# Altium schematic symbol library Other_Mechanical.SchLib: 9 symbols
Pins are listed as number, name and electrical type; pins without a type are passive.

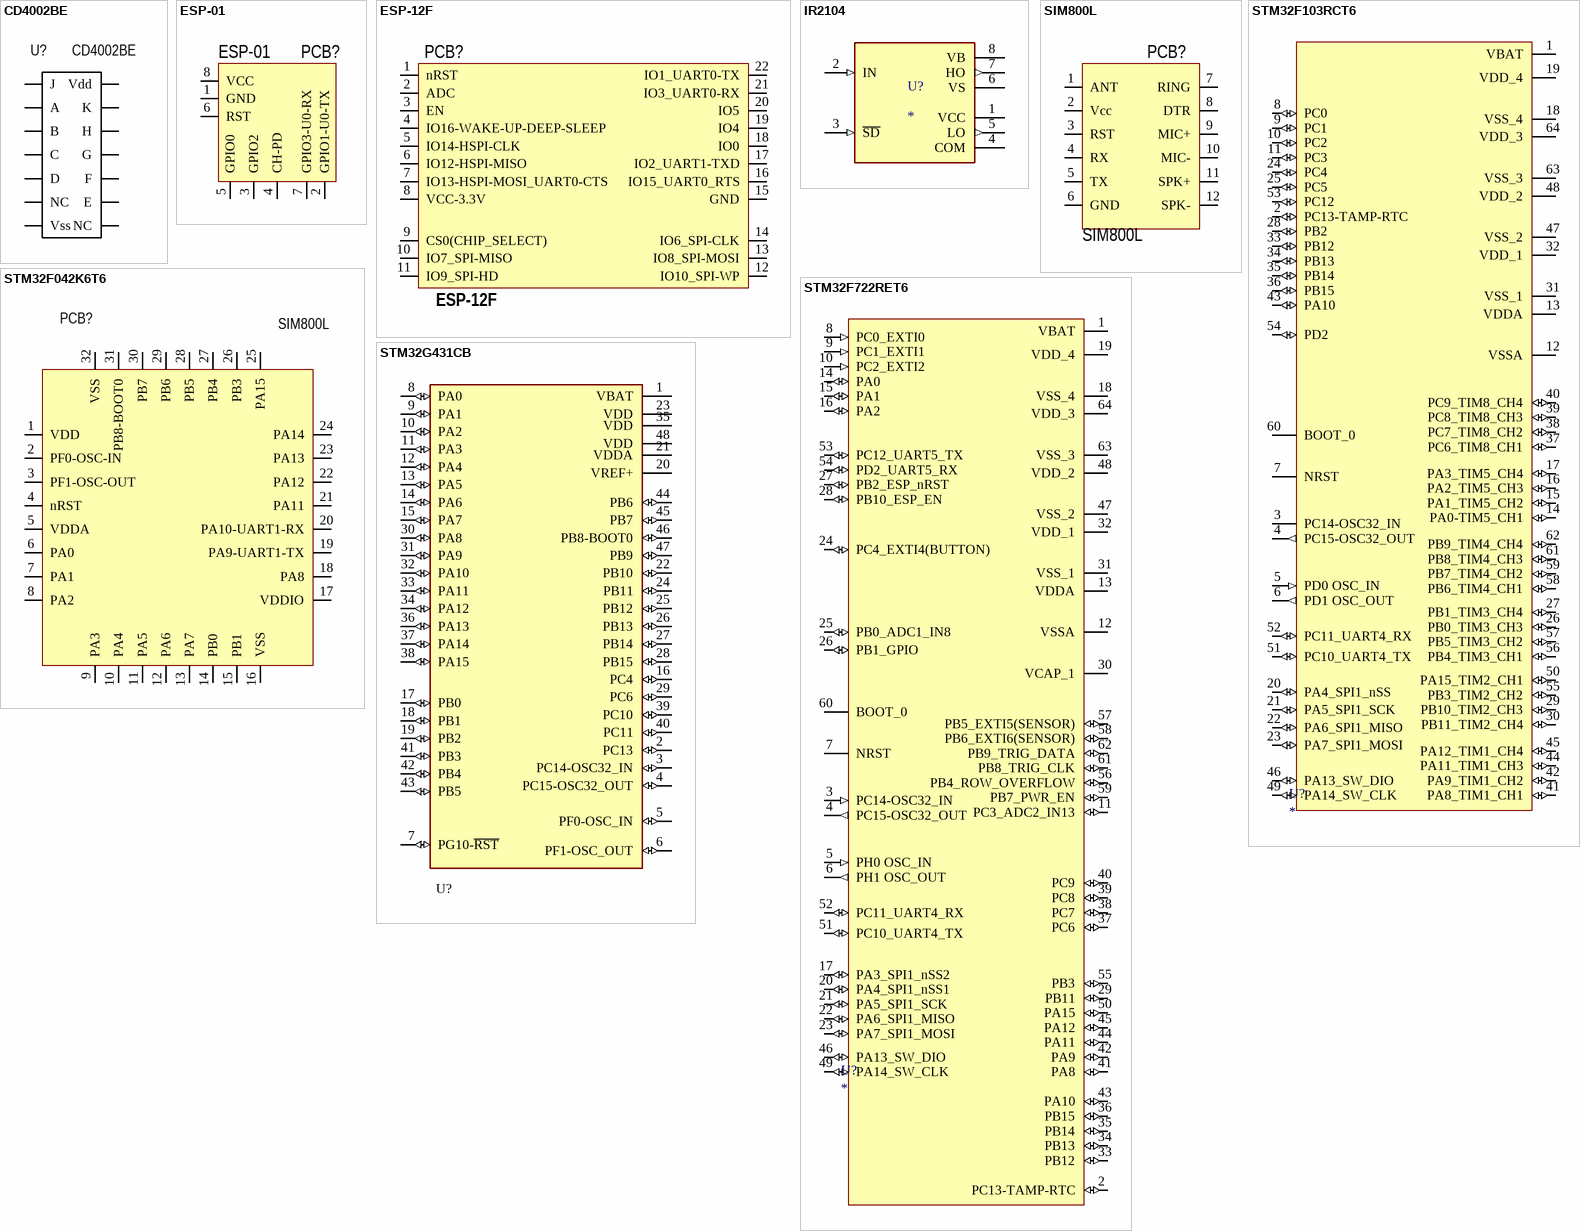
[diagram p0: symbols CD4002BE to STM32G431CB]

## CD4002BE
designator U?
Two 4-input dual CMOS NOR
footprint DIP-14
footprint DIP-14-bottom-only
pins: 1 J "J=not(A+B+C+D)", 2 A, 3 B, 4 C, 5 D, 6 NC (hiz), 7 Vss, 8 NC (hiz), 9 E, 10 F, 11 G, 12 H, 13 K "K=not(E+F+G+H)", 14 Vdd

## ESP-01
designator PCB?
footprint ESP-01
pins: 1 GND, 2 GPIO1-U0-TX, 3 GPIO2, 4 CH-PD, 5 GPIO0, 6 RST, 7 GPIO3-U0-RX, 8 VCC

## ESP-12F
designator PCB?
footprint ESP-12F
pins: 1 nRST, 2 ADC, 3 EN, 4 IO16-WAKE-UP-DEEP-SLEEP, 5 IO14-HSPI-CLK, 6 IO12-HSPI-MISO, 7 IO13-HSPI-MOSI_UART0-CTS, 8 VCC-3.3V, 9 CS0(CHIP_SELECT), 10 IO7_SPI-MISO, 11 IO9_SPI-HD, 12 IO10_SPI-WP, 13 IO8_SPI-MOSI, 14 IO6_SPI-CLK, 15 GND, 16 IO15_UART0_RTS, 17 IO2_UART1-TXD, 18 IO0, 19 IO4, 20 IO5, 21 IO3_UART0-RX, 22 IO1_UART0-TX

## IR2104
designator U?
Half-Bridge Gate Driver IC Non-Inverting 8-PDIP; MF: Infineon Technologies; MP: IR2104; SnapEDA_Link: https://www.snapeda.com/parts/IR2104/Infineon/view-part/?ref=snap; Package: DIP-8 Infineon; Value: *; Check_prices: https://www.snapeda.com/parts/IR2104/Infineon/view-part/?ref=eda
footprint DIP762W45P254L988H533Q8
pins: 1 VCC (power), 2 IN (in), 3 ~{SD} (in), 4 COM (power), 5 LO (out), 6 VS (power), 7 HO (out), 8 VB (power)

## SIM800L
designator PCB?
footprint SIM800L
pins: 1 ANT, 2 Vcc, 3 RST, 4 RX, 5 TX, 6 GND, 7 RING, 8 DTR, 9 MIC+, 10 MIC-, 11 SPK+, 12 SPK-

## STM32F042K6T6
designator PCB?, comment SIM800L
footprint LQFP32
pins: 1 VDD, 2 PF0-OSC-IN, 3 PF1-OSC-OUT, 4 nRST, 5 VDDA, 6 PA0, 7 PA1, 8 PA2, 9 PA3, 10 PA4, 11 PA5, 12 PA6, 13 PA7, 14 PB0, 15 PB1, 16 VSS, 17 VDDIO, 18 PA8, 19 PA9-UART1-TX, 20 PA10-UART1-RX, 21 PA11, 22 PA12, 23 PA13, 24 PA14, 25 PA15, 26 PB3, 27 PB4, 28 PB5, 29 PB6, 30 PB7, 31 PB8-BOOT0, 32 VSS

## STM32F103RCT6
designator U?
footprint LQFP64
pins: 1 VBAT (power), 2 PC13-TAMP-RTC (io), 3 PC14-OSC32_IN (hiz), 4 PC15-OSC32_OUT (out), 5 PD0 OSC_IN (in), 6 PD1 OSC_OUT (out), 7 NRST, 8 PC0 (io), 9 PC1 (io), 10 PC2 (io), 11 PC3 (io), 12 VSSA (power), 13 VDDA (power), 14 PA0-TIM5_CH1 (io), 15 PA1_TIM5_CH2 (io), 16 PA2_TIM5_CH3 (io), 17 PA3_TIM5_CH4 (io), 18 VSS_4 (power), 19 VDD_4 (power), 20 PA4_SPI1_nSS (io), 21 PA5_SPI1_SCK (io), 22 PA6_SPI1_MISO (io), 23 PA7_SPI1_MOSI (io), 24 PC4 (io), 25 PC5 (io), 26 PB0_TIM3_CH3 (io), 27 PB1_TIM3_CH4 (io), 28 PB2 (io), 29 PB10_TIM2_CH3 (io), 30 PB11_TIM2_CH4 (io), 31 VSS_1 (power), 32 VDD_1 (power), 33 PB12 (io), 34 PB13 (io), 35 PB14 (io), 36 PB15 (io), 37 PC6_TIM8_CH1 (io), 38 PC7_TIM8_CH2 (io), 39 PC8_TIM8_CH3 (io), 40 PC9_TIM8_CH4 (io), 41 PA8_TIM1_CH1 (io), 42 PA9_TIM1_CH2 (io), 43 PA10 (io), 44 PA11_TIM1_CH3 (io), 45 PA12_TIM1_CH4 (io), 46 PA13_SW_DIO (io), 47 VSS_2 (power), 48 VDD_2 (power), 49 PA14_SW_CLK (io), 50 PA15_TIM2_CH1 (io), 51 PC10_UART4_TX (io), 52 PC11_UART4_RX (io), 53 PC12 (io), 54 PD2 (io), 55 PB3_TIM2_CH2 (io), 56 PB4_TIM3_CH1 (io), 57 PB5_TIM3_CH2 (io), 58 PB6_TIM4_CH1 (io), 59 PB7_TIM4_CH2 (io), 60 BOOT_0, 61 PB8_TIM4_CH3 (io), 62 PB9_TIM4_CH4 (io), 63 VSS_3 (power), 64 VDD_3 (power)

## STM32F722RET6
designator U?
This pin detects when rows are and (from last D-trigger).
footprint LQFP64
pins: 1 VBAT (power), 2 PC13-TAMP-RTC (io), 3 PC14-OSC32_IN (in), 4 PC15-OSC32_OUT (out), 5 PH0 OSC_IN (in), 6 PH1 OSC_OUT (out), 7 NRST, 8 PC0_EXTI0 (in), 9 PC1_EXTI1 (in), 10 PC2_EXTI2 (in), 11 PC3_ADC2_IN13 (io), 12 VSSA (power), 13 VDDA (power), 14 PA0 (io), 15 PA1 (io), 16 PA2 (io), 17 PA3_SPI1_nSS2 (io), 18 VSS_4 (power), 19 VDD_4 (power), 20 PA4_SPI1_nSS1 (io) "soft select chip n1", 21 PA5_SPI1_SCK (io), 22 PA6_SPI1_MISO (io), 23 PA7_SPI1_MOSI (io), 24 PC4_EXTI4(BUTTON) (io), 25 PB0_ADC1_IN8 (io), 26 PB1_GPIO (io) "This pin drives the RND capasity", 27 PB2_ESP_nRST (io), 28 PB10_ESP_EN (io), 29 PB11 (io), 30 VCAP_1, 31 VSS_1 (power), 32 VDD_1 (power), 33 PB12 (io), 34 PB13 (io), 35 PB14 (io), 36 PB15 (io), 37 PC6 (io), 38 PC7 (io), 39 PC8 (io), 40 PC9 (io), 41 PA8 (io), 42 PA9 (io), 43 PA10 (io), 44 PA11 (io), 45 PA12 (io), 46 PA13_SW_DIO (io), 47 VSS_2 (power), 48 VDD_2 (power), 49 PA14_SW_CLK (io), 50 PA15 (io), 51 PC10_UART4_TX (io), 52 PC11_UART4_RX (io), 53 PC12_UART5_TX (io), 54 PD2_UART5_RX (io), 55 PB3 (io), 56 PB4_ROW_OVERFLOW (io), 57 PB5_EXTI5(SENSOR) (io), 58 PB6_EXTI6(SENSOR) (io), 59 PB7_PWR_EN (io), 60 BOOT_0, 61 PB8_TRIG_CLK (io), 62 PB9_TRIG_DATA (io), 63 VSS_3 (power), 64 VDD_3 (power)

## STM32G431CB
designator U?  (value not drawn)
footprint QFP50P900X900X160-48N
pins: 1 VBAT (power), 2 PC13 (io), 3 PC14-OSC32_IN (io), 4 PC15-OSC32_OUT (io), 5 PF0-OSC_IN (io), 6 PF1-OSC_OUT (io), 7 PG10-~{RST} (io), 8 PA0 (io), 9 PA1 (io), 10 PA2 (io), 11 PA3 (io), 12 PA4 (io), 13 PA5 (io), 14 PA6 (io), 15 PA7 (io), 16 PC4 (io), 17 PB0 (io), 18 PB1 (io), 19 PB2 (io), 20 VREF+ (power), 21 VDDA (power), 22 PB10 (io), 23 VDD (power), 24 PB11 (io), 25 PB12 (io), 26 PB13 (io), 27 PB14 (io), 28 PB15 (io), 29 PC6 (io), 30 PA8 (io), 31 PA9 (io), 32 PA10 (io), 33 PA11 (io), 34 PA12 (io), 35 VDD (power), 36 PA13 (io), 37 PA14 (io), 38 PA15 (io), 39 PC10 (io), 40 PC11 (io), 41 PB3 (io), 42 PB4 (io), 43 PB5 (io), 44 PB6 (io), 45 PB7 (io), 46 PB8-BOOT0 (io), 47 PB9 (io), 48 VDD (power)